# Altium footprint library JUMPER_50OHM.PcbLib: 1 footprints
Each footprint in its own frame and in the unit in brackets; x right, y up, seen from the top. Pads: shape width x height; smd on the part's side, far side on the other; paste and mask are expansions set on the pad; w line width, h text height; cw(c..) or ccw(c..) is an arc to the next point about the centre after c.
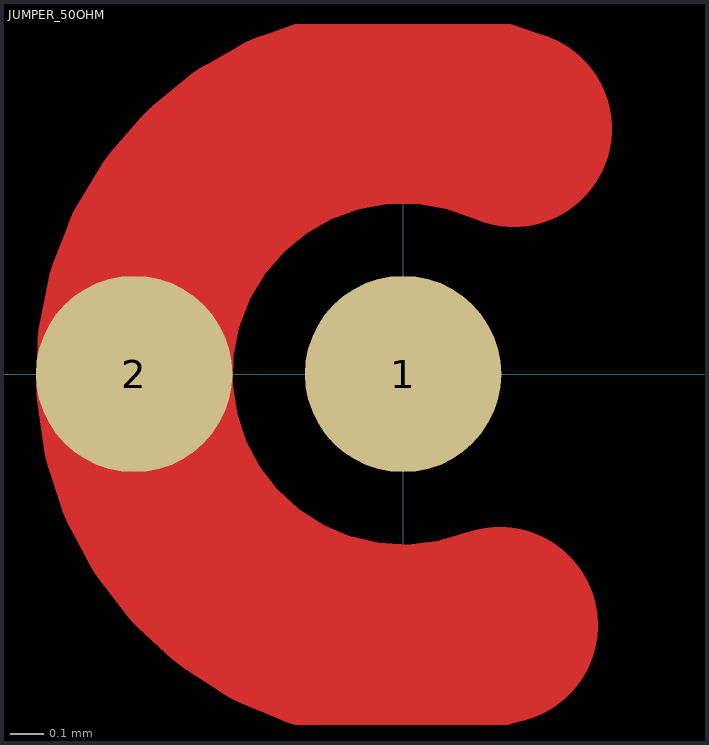
[diagram p0: the footprint, top view; thin cyan lines are the x and y axes]

## JUMPER_50OHM [mil]
pads (2):
  round 23 smd: 1(0,0) 2(-31.5,0)
Top Layer:
  lines w23: 11.34,-29.39 cw(c0,0) 12.93,28.73